# Altium schematic symbol library SCH - MCU - STM32 - ST MICROELECTRONICS STM32F469N(E-G)HX TFBGA216.SchLib: 1 symbol
Pins are listed as number, name and electrical type; pins without a type are passive.

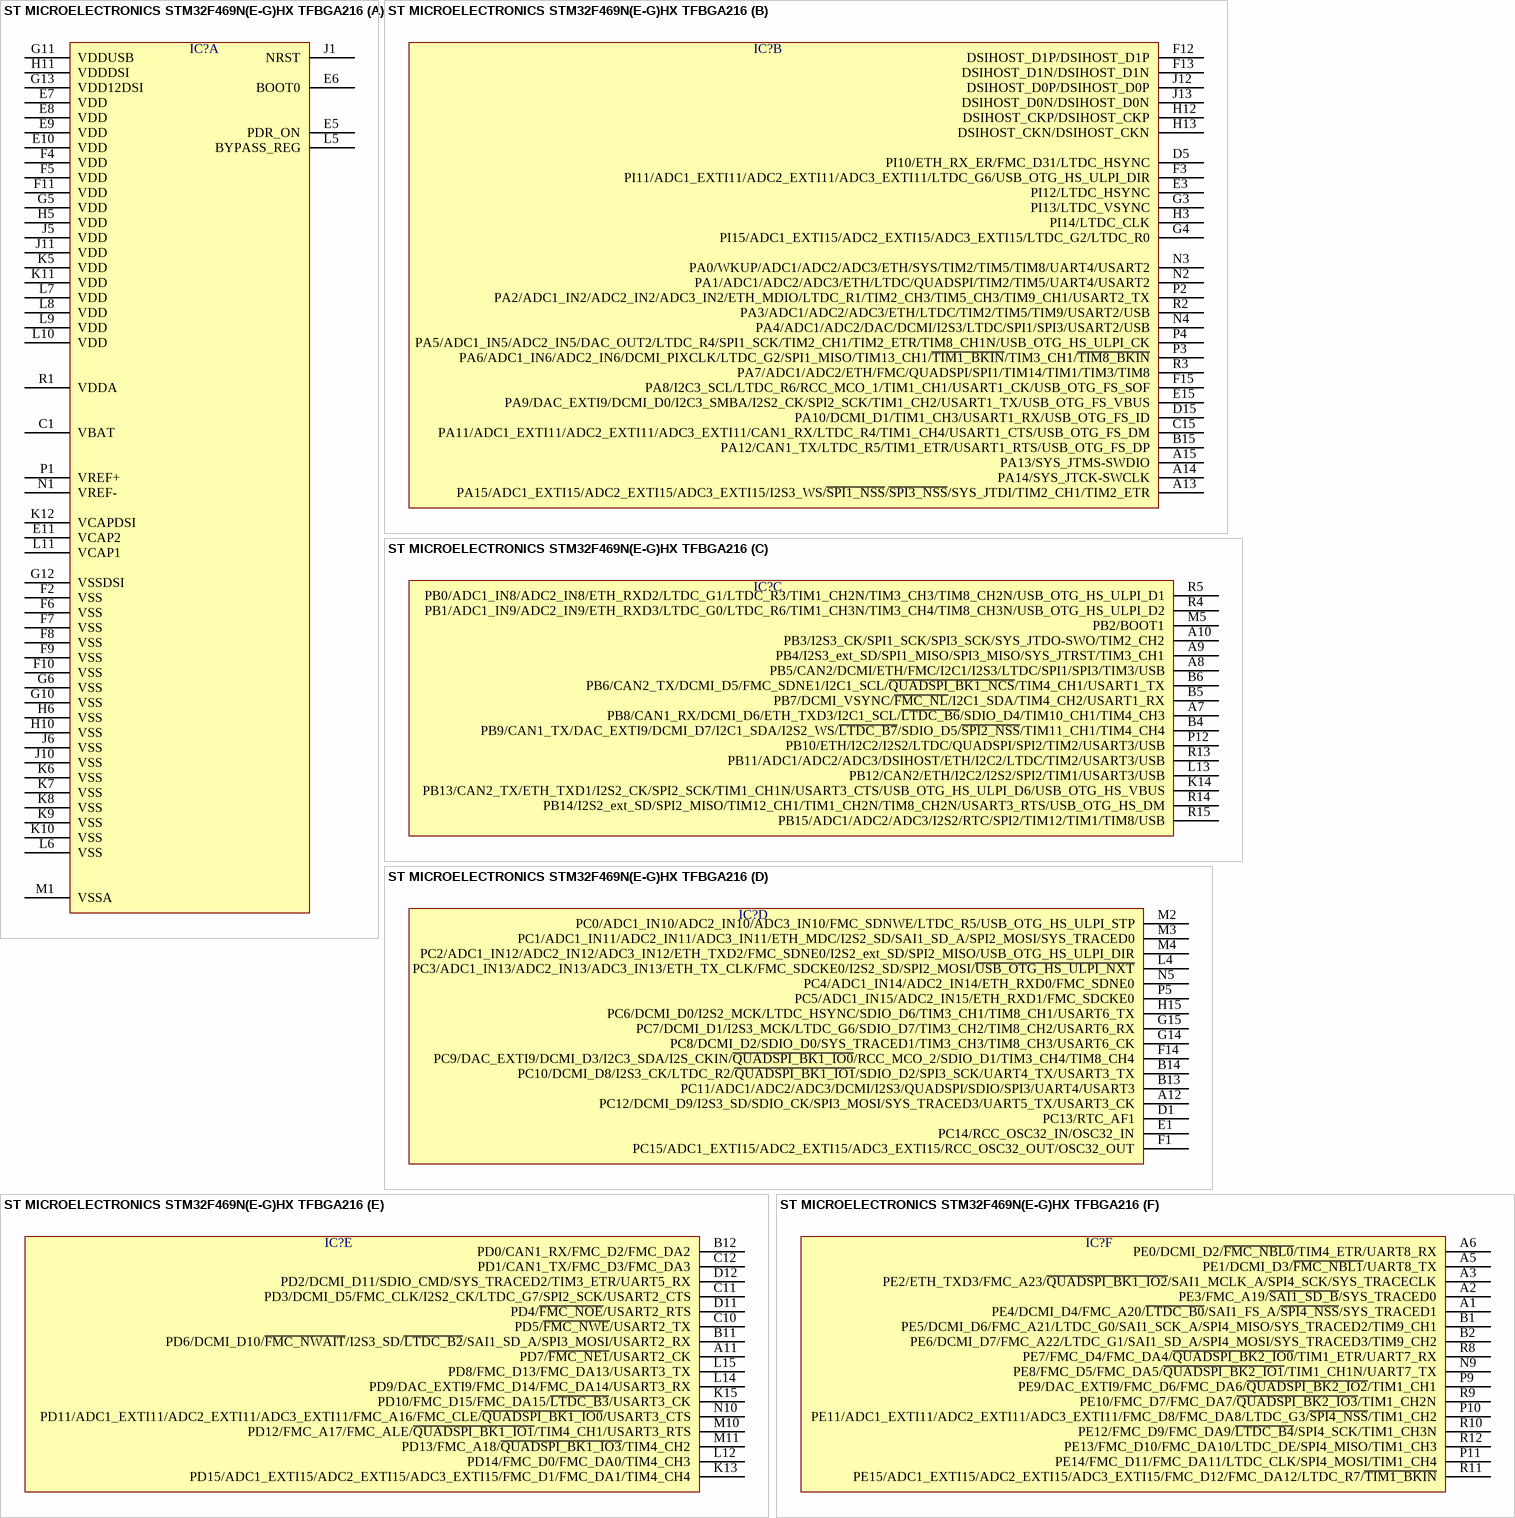
[diagram p0: symbol ST MICROELECTRONICS STM32F469N(E-G)HX TFBGA216]

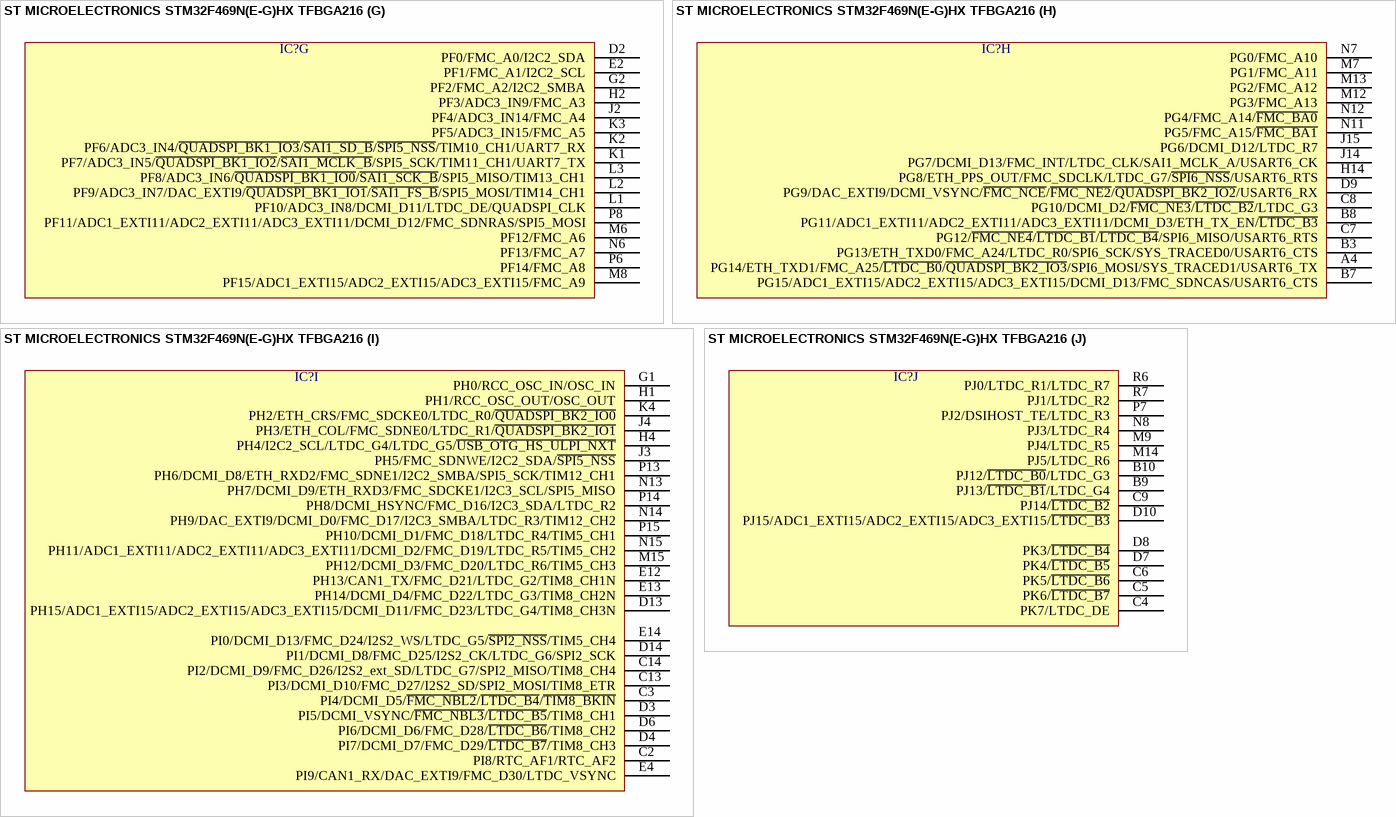
[diagram p1: symbol ST MICROELECTRONICS STM32F469N(E-G)HX TFBGA216]

## ST MICROELECTRONICS STM32F469N(E-G)HX TFBGA216
designator IC?  (value not drawn)
part A pins: C1 VBAT, E5 PDR_ON, E6 BOOT0, E7 VDD, E8 VDD, E9 VDD, E10 VDD, E11 VCAP2, F2 VSS, F4 VDD, F5 VDD, F6 VSS, F7 VSS, F8 VSS, F9 VSS, F10 VSS, F11 VDD, G5 VDD, G6 VSS, G10 VSS, G11 VDDUSB, G12 VSSDSI, G13 VDD12DSI, H5 VDD, H6 VSS, H10 VSS, H11 VDDDSI, J1 NRST, J5 VDD, J6 VSS, J10 VSS, J11 VDD, K5 VDD, K6 VSS, K7 VSS, K8 VSS, K9 VSS, K10 VSS, K11 VDD, K12 VCAPDSI, L5 BYPASS_REG, L6 VSS, L7 VDD, L8 VDD, L9 VDD, L10 VDD, L11 VCAP1, M1 VSSA, N1 VREF-, P1 VREF+, R1 VDDA
part B pins: A13 PA15/ADC1_EXTI15/ADC2_EXTI15/ADC3_EXTI15/I2S3_WS/~{SPI1_NSS}/~{SPI3_NSS}/SYS_JTDI/TIM2_CH1/TIM2_ETR, A14 PA14/SYS_JTCK-SWCLK, A15 PA13/SYS_JTMS-SWDIO, B15 PA12/CAN1_TX/LTDC_R5/TIM1_ETR/USART1_RTS/USB_OTG_FS_DP, C15 PA11/ADC1_EXTI11/ADC2_EXTI11/ADC3_EXTI11/CAN1_RX/LTDC_R4/TIM1_CH4/USART1_CTS/USB_OTG_FS_DM, D5 PI10/ETH_RX_ER/FMC_D31/LTDC_HSYNC, D15 PA10/DCMI_D1/TIM1_CH3/USART1_RX/USB_OTG_FS_ID, E3 PI12/LTDC_HSYNC, E15 PA9/DAC_EXTI9/DCMI_D0/I2C3_SMBA/I2S2_CK/SPI2_SCK/TIM1_CH2/USART1_TX/USB_OTG_FS_VBUS, F3 PI11/ADC1_EXTI11/ADC2_EXTI11/ADC3_EXTI11/LTDC_G6/USB_OTG_HS_ULPI_DIR, F12 DSIHOST_D1P/DSIHOST_D1P, F13 DSIHOST_D1N/DSIHOST_D1N, F15 PA8/I2C3_SCL/LTDC_R6/RCC_MCO_1/TIM1_CH1/USART1_CK/USB_OTG_FS_SOF, G3 PI13/LTDC_VSYNC, G4 PI15/ADC1_EXTI15/ADC2_EXTI15/ADC3_EXTI15/LTDC_G2/LTDC_R0, H3 PI14/LTDC_CLK, H12 DSIHOST_CKP/DSIHOST_CKP, H13 DSIHOST_CKN/DSIHOST_CKN, J12 DSIHOST_D0P/DSIHOST_D0P, J13 DSIHOST_D0N/DSIHOST_D0N, N2 PA1/ADC1/ADC2/ADC3/ETH/LTDC/QUADSPI/TIM2/TIM5/UART4/USART2, N3 PA0/WKUP/ADC1/ADC2/ADC3/ETH/SYS/TIM2/TIM5/TIM8/UART4/USART2, N4 PA4/ADC1/ADC2/DAC/DCMI/I2S3/LTDC/SPI1/SPI3/USART2/USB, P2 PA2/ADC1_IN2/ADC2_IN2/ADC3_IN2/ETH_MDIO/LTDC_R1/TIM2_CH3/TIM5_CH3/TIM9_CH1/USART2_TX, P3 PA6/ADC1_IN6/ADC2_IN6/DCMI_PIXCLK/LTDC_G2/SPI1_MISO/TIM13_CH1/~{TIM1_BKIN}/TIM3_CH1/~{TIM8_BKIN}, P4 PA5/ADC1_IN5/ADC2_IN5/DAC_OUT2/LTDC_R4/SPI1_SCK/TIM2_CH1/TIM2_ETR/TIM8_CH1N/USB_OTG_HS_ULPI_CK, R2 PA3/ADC1/ADC2/ADC3/ETH/LTDC/TIM2/TIM5/TIM9/USART2/USB, R3 PA7/ADC1/ADC2/ETH/FMC/QUADSPI/SPI1/TIM14/TIM1/TIM3/TIM8
part C pins: A7 PB8/CAN1_RX/DCMI_D6/ETH_TXD3/I2C1_SCL/~{LTDC_B6}/SDIO_D4/TIM10_CH1/TIM4_CH3, A8 PB5/CAN2/DCMI/ETH/FMC/I2C1/I2S3/LTDC/SPI1/SPI3/TIM3/USB, A9 PB4/I2S3_ext_SD/SPI1_MISO/SPI3_MISO/SYS_JTRST/TIM3_CH1, A10 PB3/I2S3_CK/SPI1_SCK/SPI3_SCK/SYS_JTDO-SWO/TIM2_CH2, B4 PB9/CAN1_TX/DAC_EXTI9/DCMI_D7/I2C1_SDA/I2S2_WS/~{LTDC_B7}/SDIO_D5/~{SPI2_NSS}/TIM11_CH1/TIM4_CH4, B5 PB7/DCMI_VSYNC/~{FMC_NL}/I2C1_SDA/TIM4_CH2/USART1_RX, B6 PB6/CAN2_TX/DCMI_D5/FMC_SDNE1/I2C1_SCL/~{QUADSPI_BK1_NCS}/TIM4_CH1/USART1_TX, K14 PB13/CAN2_TX/ETH_TXD1/I2S2_CK/SPI2_SCK/TIM1_CH1N/USART3_CTS/USB_OTG_HS_ULPI_D6/USB_OTG_HS_VBUS, L13 PB12/CAN2/ETH/I2C2/I2S2/SPI2/TIM1/USART3/USB, M5 PB2/BOOT1, P12 PB10/ETH/I2C2/I2S2/LTDC/QUADSPI/SPI2/TIM2/USART3/USB, R4 PB1/ADC1_IN9/ADC2_IN9/ETH_RXD3/LTDC_G0/LTDC_R6/TIM1_CH3N/TIM3_CH4/TIM8_CH3N/USB_OTG_HS_ULPI_D2, R5 PB0/ADC1_IN8/ADC2_IN8/ETH_RXD2/LTDC_G1/LTDC_R3/TIM1_CH2N/TIM3_CH3/TIM8_CH2N/USB_OTG_HS_ULPI_D1, R13 PB11/ADC1/ADC2/ADC3/DSIHOST/ETH/I2C2/LTDC/TIM2/USART3/USB, R14 PB14/I2S2_ext_SD/SPI2_MISO/TIM12_CH1/TIM1_CH2N/TIM8_CH2N/USART3_RTS/USB_OTG_HS_DM, R15 PB15/ADC1/ADC2/ADC3/I2S2/RTC/SPI2/TIM12/TIM1/TIM8/USB
part D pins: A12 PC12/DCMI_D9/I2S3_SD/SDIO_CK/SPI3_MOSI/SYS_TRACED3/UART5_TX/USART3_CK, B13 PC11/ADC1/ADC2/ADC3/DCMI/I2S3/QUADSPI/SDIO/SPI3/UART4/USART3, B14 PC10/DCMI_D8/I2S3_CK/LTDC_R2/~{QUADSPI_BK1_IO1}/SDIO_D2/SPI3_SCK/UART4_TX/USART3_TX, D1 PC13/RTC_AF1, E1 PC14/RCC_OSC32_IN/OSC32_IN, F1 PC15/ADC1_EXTI15/ADC2_EXTI15/ADC3_EXTI15/RCC_OSC32_OUT/OSC32_OUT, F14 PC9/DAC_EXTI9/DCMI_D3/I2C3_SDA/I2S_CKIN/~{QUADSPI_BK1_IO0}/RCC_MCO_2/SDIO_D1/TIM3_CH4/TIM8_CH4, G14 PC8/DCMI_D2/SDIO_D0/SYS_TRACED1/TIM3_CH3/TIM8_CH3/USART6_CK, G15 PC7/DCMI_D1/I2S3_MCK/LTDC_G6/SDIO_D7/TIM3_CH2/TIM8_CH2/USART6_RX, H15 PC6/DCMI_D0/I2S2_MCK/LTDC_HSYNC/SDIO_D6/TIM3_CH1/TIM8_CH1/USART6_TX, L4 PC3/ADC1_IN13/ADC2_IN13/ADC3_IN13/ETH_TX_CLK/FMC_SDCKE0/I2S2_SD/SPI2_MOSI/~{USB_OTG_HS_ULPI_NXT}, M2 PC0/ADC1_IN10/ADC2_IN10/ADC3_IN10/FMC_SDNWE/LTDC_R5/USB_OTG_HS_ULPI_STP, M3 PC1/ADC1_IN11/ADC2_IN11/ADC3_IN11/ETH_MDC/I2S2_SD/SAI1_SD_A/SPI2_MOSI/SYS_TRACED0, M4 PC2/ADC1_IN12/ADC2_IN12/ADC3_IN12/ETH_TXD2/FMC_SDNE0/I2S2_ext_SD/SPI2_MISO/USB_OTG_HS_ULPI_DIR, N5 PC4/ADC1_IN14/ADC2_IN14/ETH_RXD0/FMC_SDNE0, P5 PC5/ADC1_IN15/ADC2_IN15/ETH_RXD1/FMC_SDCKE0
part E pins: A11 PD7/~{FMC_NE1}/USART2_CK, B11 PD6/DCMI_D10/~{FMC_NWAIT}/I2S3_SD/~{LTDC_B2}/SAI1_SD_A/SPI3_MOSI/USART2_RX, B12 PD0/CAN1_RX/FMC_D2/FMC_DA2, C10 PD5/~{FMC_NWE}/USART2_TX, C11 PD3/DCMI_D5/FMC_CLK/I2S2_CK/LTDC_G7/SPI2_SCK/USART2_CTS, C12 PD1/CAN1_TX/FMC_D3/FMC_DA3, D11 PD4/~{FMC_NOE}/USART2_RTS, D12 PD2/DCMI_D11/SDIO_CMD/SYS_TRACED2/TIM3_ETR/UART5_RX, K13 PD15/ADC1_EXTI15/ADC2_EXTI15/ADC3_EXTI15/FMC_D1/FMC_DA1/TIM4_CH4, K15 PD10/FMC_D15/FMC_DA15/~{LTDC_B3}/USART3_CK, L12 PD14/FMC_D0/FMC_DA0/TIM4_CH3, L14 PD9/DAC_EXTI9/FMC_D14/FMC_DA14/USART3_RX, L15 PD8/FMC_D13/FMC_DA13/USART3_TX, M10 PD12/FMC_A17/FMC_ALE/~{QUADSPI_BK1_IO1}/TIM4_CH1/USART3_RTS, M11 PD13/FMC_A18/~{QUADSPI_BK1_IO3}/TIM4_CH2, N10 PD11/ADC1_EXTI11/ADC2_EXTI11/ADC3_EXTI11/FMC_A16/FMC_CLE/~{QUADSPI_BK1_IO0}/USART3_CTS
part F pins: A1 PE4/DCMI_D4/FMC_A20/~{LTDC_B0}/SAI1_FS_A/~{SPI4_NSS}/SYS_TRACED1, A2 PE3/FMC_A19/~{SAI1_SD_B}/SYS_TRACED0, A3 PE2/ETH_TXD3/FMC_A23/~{QUADSPI_BK1_IO2}/SAI1_MCLK_A/SPI4_SCK/SYS_TRACECLK, A5 PE1/DCMI_D3/~{FMC_NBL1}/UART8_TX, A6 PE0/DCMI_D2/~{FMC_NBL0}/TIM4_ETR/UART8_RX, B1 PE5/DCMI_D6/FMC_A21/LTDC_G0/SAI1_SCK_A/SPI4_MISO/SYS_TRACED2/TIM9_CH1, B2 PE6/DCMI_D7/FMC_A22/LTDC_G1/SAI1_SD_A/SPI4_MOSI/SYS_TRACED3/TIM9_CH2, N9 PE8/FMC_D5/FMC_DA5/~{QUADSPI_BK2_IO1}/TIM1_CH1N/UART7_TX, P9 PE9/DAC_EXTI9/FMC_D6/FMC_DA6/~{QUADSPI_BK2_IO2}/TIM1_CH1, P10 PE11/ADC1_EXTI11/ADC2_EXTI11/ADC3_EXTI11/FMC_D8/FMC_DA8/LTDC_G3/~{SPI4_NSS}/TIM1_CH2, P11 PE14/FMC_D11/FMC_DA11/LTDC_CLK/SPI4_MOSI/TIM1_CH4, R8 PE7/FMC_D4/FMC_DA4/~{QUADSPI_BK2_IO0}/TIM1_ETR/UART7_RX, R9 PE10/FMC_D7/FMC_DA7/~{QUADSPI_BK2_IO3}/TIM1_CH2N, R10 PE12/FMC_D9/FMC_DA9/~{LTDC_B4}/SPI4_SCK/TIM1_CH3N, R11 PE15/ADC1_EXTI15/ADC2_EXTI15/ADC3_EXTI15/FMC_D12/FMC_DA12/LTDC_R7/~{TIM1_BKIN}, R12 PE13/FMC_D10/FMC_DA10/LTDC_DE/SPI4_MISO/TIM1_CH3
part G pins: D2 PF0/FMC_A0/I2C2_SDA, E2 PF1/FMC_A1/I2C2_SCL, G2 PF2/FMC_A2/I2C2_SMBA, H2 PF3/ADC3_IN9/FMC_A3, J2 PF4/ADC3_IN14/FMC_A4, K1 PF7/ADC3_IN5/~{QUADSPI_BK1_IO2}/~{SAI1_MCLK_B}/SPI5_SCK/TIM11_CH1/UART7_TX, K2 PF6/ADC3_IN4/~{QUADSPI_BK1_IO3}/~{SAI1_SD_B}/~{SPI5_NSS}/TIM10_CH1/UART7_RX, K3 PF5/ADC3_IN15/FMC_A5, L1 PF10/ADC3_IN8/DCMI_D11/LTDC_DE/QUADSPI_CLK, L2 PF9/ADC3_IN7/DAC_EXTI9/~{QUADSPI_BK1_IO1}/~{SAI1_FS_B}/SPI5_MOSI/TIM14_CH1, L3 PF8/ADC3_IN6/~{QUADSPI_BK1_IO0}/~{SAI1_SCK_B}/SPI5_MISO/TIM13_CH1, M6 PF12/FMC_A6, M8 PF15/ADC1_EXTI15/ADC2_EXTI15/ADC3_EXTI15/FMC_A9, N6 PF13/FMC_A7, P6 PF14/FMC_A8, P8 PF11/ADC1_EXTI11/ADC2_EXTI11/ADC3_EXTI11/DCMI_D12/FMC_SDNRAS/SPI5_MOSI
part H pins: A4 PG14/ETH_TXD1/FMC_A25/~{LTDC_B0}/~{QUADSPI_BK2_IO3}/SPI6_MOSI/SYS_TRACED1/USART6_TX, B3 PG13/ETH_TXD0/FMC_A24/LTDC_R0/SPI6_SCK/SYS_TRACED0/USART6_CTS, B7 PG15/ADC1_EXTI15/ADC2_EXTI15/ADC3_EXTI15/DCMI_D13/FMC_SDNCAS/USART6_CTS, B8 PG11/ADC1_EXTI11/ADC2_EXTI11/ADC3_EXTI11/DCMI_D3/ETH_TX_EN/~{LTDC_B3}, C7 PG12/~{FMC_NE4}/~{LTDC_B1}/~{LTDC_B4}/SPI6_MISO/USART6_RTS, C8 PG10/DCMI_D2/~{FMC_NE3}/~{LTDC_B2}/LTDC_G3, D9 PG9/DAC_EXTI9/DCMI_VSYNC/~{FMC_NCE}/~{FMC_NE2}/~{QUADSPI_BK2_IO2}/USART6_RX, H14 PG8/ETH_PPS_OUT/FMC_SDCLK/LTDC_G7/~{SPI6_NSS}/USART6_RTS, J14 PG7/DCMI_D13/FMC_INT/LTDC_CLK/SAI1_MCLK_A/USART6_CK, J15 PG6/DCMI_D12/LTDC_R7, M7 PG1/FMC_A11, M12 PG3/FMC_A13, M13 PG2/FMC_A12, N7 PG0/FMC_A10, N11 PG5/FMC_A15/~{FMC_BA1}, N12 PG4/FMC_A14/~{FMC_BA0}
part I pins: C2 PI8/RTC_AF1/RTC_AF2, C3 PI4/DCMI_D5/~{FMC_NBL2}/~{LTDC_B4}/~{TIM8_BKIN}, C13 PI3/DCMI_D10/FMC_D27/I2S2_SD/SPI2_MOSI/TIM8_ETR, C14 PI2/DCMI_D9/FMC_D26/I2S2_ext_SD/LTDC_G7/SPI2_MISO/TIM8_CH4, D3 PI5/DCMI_VSYNC/~{FMC_NBL3}/~{LTDC_B5}/TIM8_CH1, D4 PI7/DCMI_D7/FMC_D29/~{LTDC_B7}/TIM8_CH3, D6 PI6/DCMI_D6/FMC_D28/~{LTDC_B6}/TIM8_CH2, D13 PH15/ADC1_EXTI15/ADC2_EXTI15/ADC3_EXTI15/DCMI_D11/FMC_D23/LTDC_G4/TIM8_CH3N, D14 PI1/DCMI_D8/FMC_D25/I2S2_CK/LTDC_G6/SPI2_SCK, E4 PI9/CAN1_RX/DAC_EXTI9/FMC_D30/LTDC_VSYNC, E12 PH13/CAN1_TX/FMC_D21/LTDC_G2/TIM8_CH1N, E13 PH14/DCMI_D4/FMC_D22/LTDC_G3/TIM8_CH2N, E14 PI0/DCMI_D13/FMC_D24/I2S2_WS/LTDC_G5/~{SPI2_NSS}/TIM5_CH4, G1 PH0/RCC_OSC_IN/OSC_IN, H1 PH1/RCC_OSC_OUT/OSC_OUT, H4 PH4/I2C2_SCL/LTDC_G4/LTDC_G5/~{USB_OTG_HS_ULPI_NXT}, J3 PH5/FMC_SDNWE/I2C2_SDA/~{SPI5_NSS}, J4 PH3/ETH_COL/FMC_SDNE0/LTDC_R1/~{QUADSPI_BK2_IO1}, K4 PH2/ETH_CRS/FMC_SDCKE0/LTDC_R0/~{QUADSPI_BK2_IO0}, M15 PH12/DCMI_D3/FMC_D20/LTDC_R6/TIM5_CH3, N13 PH7/DCMI_D9/ETH_RXD3/FMC_SDCKE1/I2C3_SCL/SPI5_MISO, N14 PH9/DAC_EXTI9/DCMI_D0/FMC_D17/I2C3_SMBA/LTDC_R3/TIM12_CH2, N15 PH11/ADC1_EXTI11/ADC2_EXTI11/ADC3_EXTI11/DCMI_D2/FMC_D19/LTDC_R5/TIM5_CH2, P13 PH6/DCMI_D8/ETH_RXD2/FMC_SDNE1/I2C2_SMBA/SPI5_SCK/TIM12_CH1, P14 PH8/DCMI_HSYNC/FMC_D16/I2C3_SDA/LTDC_R2, P15 PH10/DCMI_D1/FMC_D18/LTDC_R4/TIM5_CH1
part J pins: B9 PJ13/~{LTDC_B1}/LTDC_G4, B10 PJ12/~{LTDC_B0}/LTDC_G3, C4 PK7/LTDC_DE, C5 PK6/~{LTDC_B7}, C6 PK5/~{LTDC_B6}, C9 PJ14/~{LTDC_B2}, D7 PK4/~{LTDC_B5}, D8 PK3/~{LTDC_B4}, D10 PJ15/ADC1_EXTI15/ADC2_EXTI15/ADC3_EXTI15/~{LTDC_B3}, M9 PJ4/LTDC_R5, M14 PJ5/LTDC_R6, N8 PJ3/LTDC_R4, P7 PJ2/DSIHOST_TE/LTDC_R3, R6 PJ0/LTDC_R1/LTDC_R7, R7 PJ1/LTDC_R2